# Altium integrated library 691213510003.IntLib: 1 symbol
Pins are listed as number, name and electrical type; pins without a type are passive.

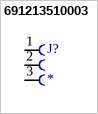
[diagram p0: symbol 691213510003]

## 691213510003
designator J?
3 Position Wire to Board Terminal Block Horizontal with Board 0.200 (5.08mm) Through Hole; MP: 691213510003; MF: WÃ¼rth Elektronik; Price: None; Availability: In Stock; Package: None; SnapEDA_Link: https://www.snapeda.com/parts/691213510003/Wurth+Elektronik/view-part/?ref=snap; Purchase-URL: https://pricing.snapeda.com/search/part/691213510003/?ref=eda; Check_prices: https://www.snapeda.com/parts/691213510003/Wurth+Elektronik/view-part/?ref=eda; Value: *
footprint 691213510003
pins: 1, 2, 3